# Altium schematic symbol library AD8138S.Schlib: 1 symbol
Pins are listed as number, name and electrical type; pins without a type are passive.

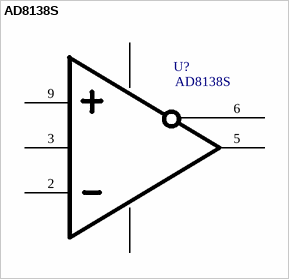
[diagram p0: symbol AD8138S]

## AD8138S
designator U?
Назначение: Дифференциальный операционный усилитель; Наименование: AD8138S
footprint 10pin FlatPack
pins: 2 -IN (oc), 3 Vocm (oc), 4 V+ (oc), 5 OUT- (oc), 6 OUT- (oc), 7 V- (oc), 9 IN+ (oc)